# EAGLE library part MSP430G2231 (library GuShH)
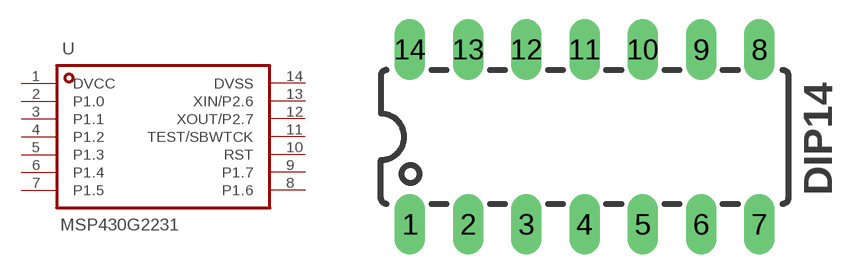
[diagram p7: symbol with the pads of DIP14; footprint DIP14]

Designator prefix -

## MSP430G2231IN20  [DIP14]
1  DVCC  pwr
2  P1.0
3  P1.1
4  P1.2
5  P1.3
6  P1.4
7  P1.5
8  P1.6
9  P1.7
10  RST
11  TEST/SBWTCK
12  XOUT/P2.7
13  XIN/P2.6
14  DVSS  pwr

## Footprint DIP14 (pad centres in mm)
drill 0.813 long: 1 -7.62,-3.81; 2 -5.08,-3.81; 3 -2.54,-3.81; 4 0,-3.81; 5 2.54,-3.81; 6 5.08,-3.81; 7 7.62,-3.81; 8 7.62,3.81; 9 5.08,3.81; 10 2.54,3.81; 11 0,3.81; 12 -2.54,3.81; 13 -5.08,3.81; 14 -7.62,3.81